# EAGLE library part USB-AB-NEW (library GTA04b7)
Molex USB-OTG mini plug
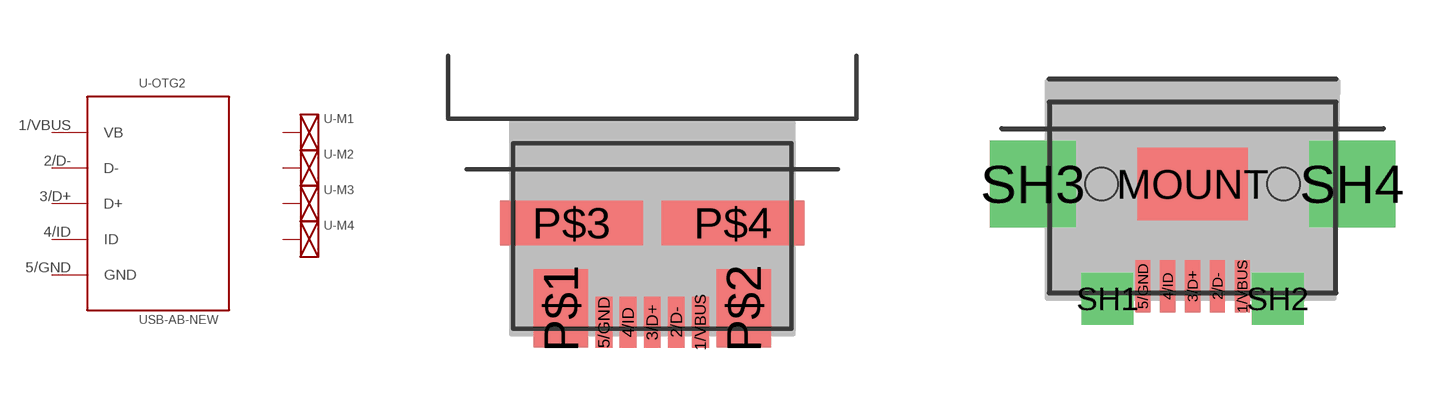
[diagram p54: symbol with the pads of 47346-0001; footprints 47346-0001, SD-47589-0001]

Designator prefix -; gates -M1=SHIELD -M2=SHIELD -M3=SHIELD -M4=SHIELD -OTG2=SOCKET-USB-OTG

## USB-AB-NEW-47346-0001  [47346-0001]
1/VBUS  -OTG2:VB  pwr
2/D-  -OTG2:D-
3/D+  -OTG2:D+
4/ID  -OTG2:ID
5/GND  -OTG2:GND  pwr
P$1  -M1:SHIELD  pwr
P$2  -M2:SHIELD  pwr
P$3  -M3:SHIELD  pwr
P$4  -M4:SHIELD  pwr

## USB-AB-NEW-47589-0001  [SD-47589-0001]
1/VBUS  -OTG2:VB  pwr
2/D-  -OTG2:D-
3/D+  -OTG2:D+
4/ID  -OTG2:ID
5/GND  -OTG2:GND  pwr
SH1  -M2:SHIELD  pwr
SH2  -M3:SHIELD  pwr
SH3  -M4:SHIELD  pwr
SH4  -M1:SHIELD  pwr

## USB-AB-NEW-47590-0001  [SD-47590-0001]
Pads as for SD-47589-0001

## USB-AB-NEW-56579-0519  [SD-56579-0519]
1/VBUS  -OTG2:VB  pwr
2/D-  -OTG2:D-
3/D+  -OTG2:D+
4/ID  -OTG2:ID
5/GND  -OTG2:GND  pwr
USB-S1  -M1:SHIELD  pwr
USB-S2  -M2:SHIELD  pwr
USB-S3  -M3:SHIELD  pwr
USB-S4  -M4:SHIELD  pwr

## USB-AB-NEW-56579-0576  [SD-56579-0576]
Pads as for SD-56579-0519

## USB-AB-NEW-67803-8020  [SD-67803-8020]
Pads as for SD-56579-0519

## USB-AB-NEW-105017-0001  [105017-0001]
Pads as for SD-47589-0001

## Footprint 47346-0001 (pad centres in mm)
Molex Micro-B flat mount
smd 0.45 x 1.38: 1/VBUS 1.3,-2.675; 2/D- 0.65,-2.675; 3/D+ 0,-2.675; 4/ID -0.65,-2.675; 5/GND -1.3,-2.675
smd 1.475 x 2.1: P$1 -2.463,-2.3; P$2 2.462,-2.3
smd 3.85 x 1.2: P$3 -2.175,0; P$4 2.175,0

## Footprint SD-47589-0001 (pad centres in mm)
Micro-USB-AB (OTG) Socket Molex
smd 0.4 x 1.35: 1/VBUS 1.3,-2.675; 2/D- 0.65,-2.675; 3/D+ 0,-2.675; 4/ID -0.65,-2.675; 5/GND -1.3,-2.675
smd 2.9 x 1.9: MOUNT 0,0
drill 0.85 pad 1 square: SH1 -2.225,-3; SH2 2.225,-3
drill 1.5 pad 1.7 square: SH3 -4.175,0; SH4 4.175,0
hole 0.85 at -2.375,0
hole 0.85 at 2.375,0

## Footprint SD-47590-0001 (pad centres in mm)
Micro-USB-AB (OTG) Socket Molex
smd 0.4 x 1.35: 1/VBUS 1.3,-2.675; 2/D- 0.65,-2.675; 3/D+ 0,-2.675; 4/ID -0.65,-2.675; 5/GND -1.3,-2.675
smd 2.9 x 1.9: MOUNT 0,0
drill 0.6 pad 0.8: SH1 -2.225,-3; SH2 2.225,-3
drill 1 pad 1.3: SH3 -4.175,0; SH4 4.175,0
hole 0.85 at -2.375,0
hole 0.85 at 2.375,0

## Footprint SD-56579-0519 (pad centres in mm)
Molex Mini USB AB (OTG) SD-56579-0519
drill 0.7 pad 1: 1/VBUS 1.6,-6.8; 2/D- 0.8,-5.6; 3/D+ 0,-6.8; 4/ID -0.8,-5.6; 5/GND -1.6,-6.8
smd 1.4 x 2.5: USB-S1 -3.7,-6.25; USB-S2 3.7,-6.25
drill 1.6 pad 2: USB-S3 -3.65,-1.75; USB-S4 3.65,-1.75

## Footprint SD-56579-0576 (pad centres in mm)
Molex USB OTG plug
smd 0.5 x 2.25: 1/VBUS 1.6,-7.125; 2/D- 0.8,-7.125; 3/D+ 0,-7.125; 4/ID -0.8,-7.125; 5/GND -1.6,-7.125
smd 1.65 x 3.5: USB-S1 -4.7,-7.15; USB-S2 4.7,-7.15
smd 1.65 x 4: USB-S3 -4.7,-2.9; USB-S4 4.7,-2.9

## Footprint SD-67803-8020 (pad centres in mm)
Molex USB OTG plug SD-67803-8020
smd 0.5 x 2.25: 1/VBUS 1.6,-7.125; 2/D- 0.8,-7.125; 3/D+ 0,-7.125; 4/ID -0.8,-7.125; 5/GND -1.6,-7.125
smd 1.65 x 3.5: USB-S1 -4.7,-7.15; USB-S2 4.7,-7.15
smd 1.65 x 4: USB-S3 -4.7,-2.9; USB-S4 4.7,-2.9
hole 0.9 at -2.2,-4.8
hole 0.9 at 2.2,-4.8

## Footprint 105017-0001 (pad centres in mm)
Micro-B socket Molex 105017-0001
smd 0.4 x 1.35: 1/VBUS 1.3,-2.7; 2/D- 0.65,-2.7; 3/D+ 0,-2.7; 4/ID -0.65,-2.7; 5/GND -1.3,-2.7
smd 3.5 x 1.9: MOUNT 0,0
drill 0.85 pad 1.45: SH1 -2.5,-2.7; SH2 2.5,-2.7
drill 1 pad 1.3: SH3 -3.5,0; SH4 3.5,0